# EAGLE library part 338069-8 (library 338069-8)
Body Features: Connector Profile Standard | Daisy Chain Without | Primary Product Color Red | Configuration Features: Number of Rows 2 | PCB Mount Orientation Vertical | Number of Positions 8 | Contact Features: PCB Contact Termination Area Plating Material Finish Matte | Contact Mating Area Plating Material Thickness 3 5 MICM | PCB Contact Termination Area Plating Material Tin | Contact Mating Area Plating Material Tin | Contact Current Rating (Max) 1.5 AMP | Contact Base Material Phosphor Bronze | PCB Source: Datasheet <https://www.te.com/commerce/DocumentDelivery/DDEController?Action=srchrtrv&DocNm=4-1773457-1_050_Micro_MaTch&DocType=Data Sheet&DocLang=English&PartCntxt=338069-8&DocFormat=pdf>
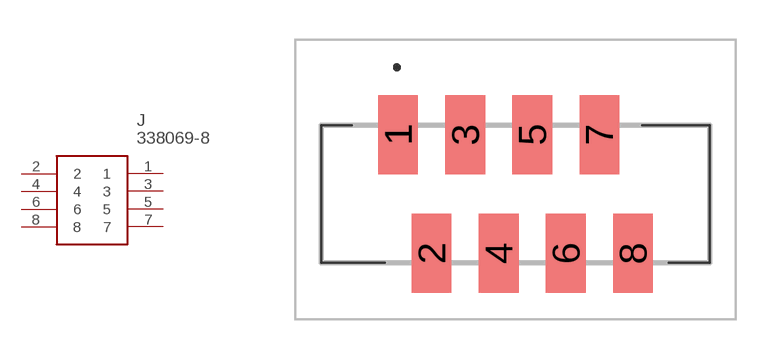
[diagram p0: symbol with the pads of 3380698; footprint 3380698]

Designator prefix J

## 338069-8 (Description: Body Features: Connector Profile Standard | Daisy Chain Without | Primary Product Color Red | Configuration Features: Number of Rows 2 | PCB Mount Orientation Vertical | Number of Positions 8 | Contact Features: PCB Contact Termination Area Plating Material Finish Matte | Contact Mating Area Plating Material Thickness 3 5 MICM | PCB Contact Termination Area Plating Material Tin | Contact Mating Area Plating Material Tin | Contact Current Rating (Max) 1.5 AMP | Contact Base Material Phosphor Bronze | PCB; Height: 5.3mm; Manufacturer_Name: TE Connectivity; Manufacturer_Part_Number: 338069-8; Mouser_Part_Number: 571-338069-8; Mouser_Price-Stock: https://www.mouser.co.uk/ProductDetail/TE-Connectivity/338069-8?qs=GhSsVVVq7dQLf4JKhIzYQA%3D%3D)  [3380698]
1  1
2  2
3  3
4  4
5  5
6  6
7  7
8  8

## Footprint 3380698 (pad centres in mm)
338069-8-3
smd 1.5 x 3: 1 -4.445,2.25; 2 -3.175,-2.25; 3 -1.905,2.25; 4 -0.635,-2.25; 5 0.635,2.25; 6 1.905,-2.25; 7 3.175,2.25; 8 4.445,-2.25